# Altium footprint library MICB.PcbLib: 10 footprints
Each footprint in its own frame and in the unit in brackets; x right, y up, seen from the top. Pads: shape width x height; smd on the part's side, far side on the other; paste and mask are expansions set on the pad; w line width, h text height; cw(c..) or ccw(c..) is an arc to the next point about the centre after c.
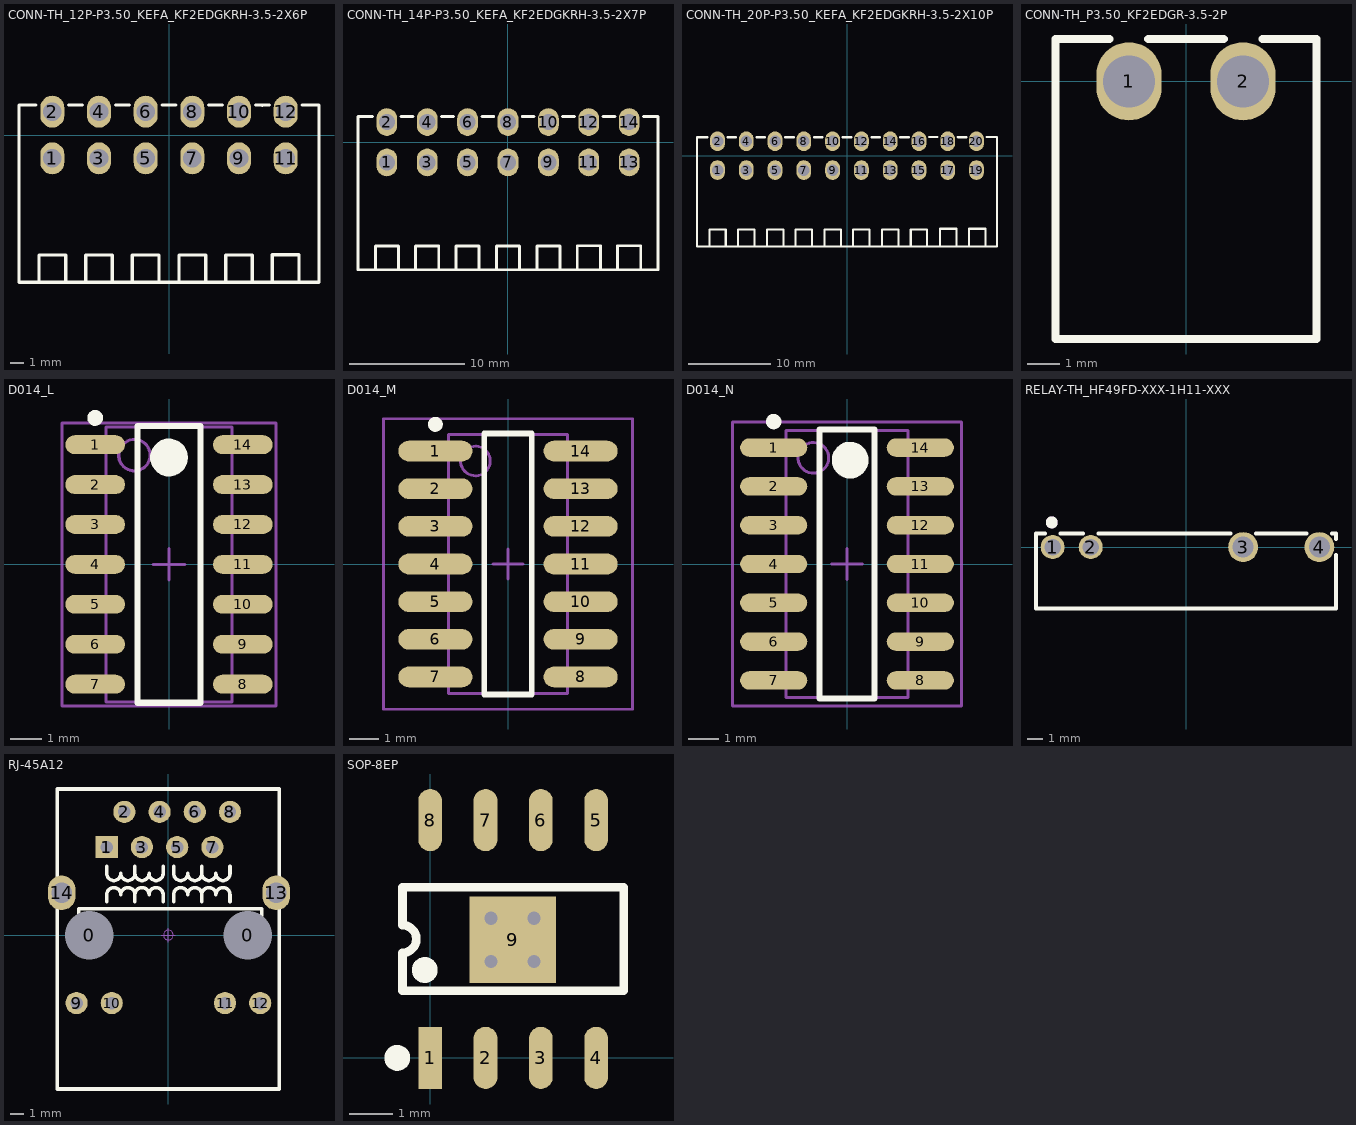
[diagram p0: the footprints below, top view; thin cyan lines are the x and y axes]

## CONN-TH_12P-P3.50_KEFA_KF2EDGKRH-3.5-2X6P [mm]
pads (12):
  oval 1.8x2.4 hole 1.4: 1(-8.75,-1.75) 2(-8.75,1.75) 3(-5.25,-1.75) 4(-5.25,1.75) 5(-1.75,-1.75) 6(-1.75,1.75) 7(1.75,-1.75) 8(1.75,1.75) 9(5.25,-1.75) 10(5.25,1.75) 11(8.75,-1.75) 12(8.75,1.75)
Top Overlay:
  lines w0.254: -9.984,2.25 -11.25,2.25 -11.25,-11.05 11.25,-11.05 11.25,2.25 9.983,2.25 ; -9.75,-11.05 -9.75,-9 -7.75,-9 -7.75,-11.05 ; -7.517,2.25 -6.483,2.25 ; -6.25,-11.05 -6.25,-9 -4.25,-9 -4.25,-11.05 ; -4.016,2.25 -2.984,2.25 ; -2.75,-11.05 -2.75,-9 -0.75,-9 -0.75,-11.05 ; -0.517,2.25 0.517,2.25 ; 0.75,-11.05 0.75,-9 2.75,-9 2.75,-11.05 ; 2.984,2.25 4.016,2.25 ; 4.25,-11.05 4.25,-9 6.25,-9 6.25,-11.05 ; 6.483,2.25 7,2.25 ; 7,2.23 7,2.25 ; 7.516,2.25 7,2.25 ; 7.752,-11.021 7.752,-8.971 9.752,-8.971 9.752,-11.021
3D body "22.STEP": height 15.26, standoff -2.54, extent -11.25,-11.049 11.25,2.25

## CONN-TH_14P-P3.50_KEFA_KF2EDGKRH-3.5-2X7P [mm]
pads (14):
  oval 1.8x2.4 hole 1.4: 1(-10.5,-1.75) 2(-10.5,1.75) 3(-7,-1.75) 4(-7,1.75) 5(-3.5,-1.75) 6(-3.5,1.75) 7(0,-1.75) 8(0,1.75) 9(3.5,-1.75) 10(3.5,1.75) 11(7,-1.75) 12(7,1.75) 13(10.5,-1.75) 14(10.5,1.75)
Top Overlay:
  lines w0.254: -11.733,2.25 -13,2.25 -13,-11.05 13,-11.05 13,2.25 11.734,2.25 ; -11.5,-11.05 -11.5,-9 -9.5,-9 -9.5,-11.05 ; -9.267,2.25 -8.233,2.25 ; -8,-11.05 -8,-9 -6,-9 -6,-11.05 ; -5.766,2.25 -4.733,2.25 ; -4.5,-11.05 -4.5,-9 -2.5,-9 -2.5,-11.05 ; -2.267,2.25 -1.233,2.25 ; -1,-11.05 -1,-9 1,-9 1,-11.05 ; 1.234,2.25 2.267,2.25 ; 2.5,-11.05 2.5,-9 4.5,-9 4.5,-11.05 ; 4.733,2.25 5.25,2.25 ; 5.25,2.23 5.25,2.25 ; 5.766,2.25 5.25,2.25 ; 6.002,-11.021 6.002,-8.971 8.002,-8.971 8.002,-11.021 ; 8.233,2.25 9.267,2.25 ; 9.502,-11.021 9.502,-8.971 11.502,-8.971 11.502,-11.021
3D body "22.STEP": height 15.26, standoff -2.54, extent -13.127,-11.049 12.872,2.25

## CONN-TH_20P-P3.50_KEFA_KF2EDGKRH-3.5-2X10P [mm]
pads (20):
  oval 1.8x2.4 hole 1.4: 1(-15.75,-1.75) 2(-15.75,1.75) 3(-12.25,-1.75) 4(-12.25,1.75) 5(-8.75,-1.75) 6(-8.75,1.75) 7(-5.25,-1.75) 8(-5.25,1.75) 9(-1.75,-1.75) 10(-1.75,1.75) 11(1.75,-1.75) 12(1.75,1.75) 13(5.25,-1.75) 14(5.25,1.75) 15(8.75,-1.75) 16(8.75,1.75) 17(12.25,-1.75) 18(12.25,1.75) 19(15.75,-1.75) 20(15.75,1.75)
Top Overlay:
  lines w0.254: -16.984,2.25 -18.25,2.25 -18.25,-11.05 18.25,-11.05 18.25,2.286 16.968,2.286 ; -16.75,-11.05 -16.75,-9 -14.75,-9 -14.75,-11.05 ; -14.517,2.25 -13.483,2.25 ; -13.25,-11.05 -13.25,-9 -11.25,-9 -11.25,-11.05 ; -11.016,2.25 -9.983,2.25 ; -9.75,-11.05 -9.75,-9 -7.75,-9 -7.75,-11.05 ; -7.517,2.25 -6.483,2.25 ; -6.25,-11.05 -6.25,-9 -4.25,-9 -4.25,-11.05 ; -4.016,2.25 -2.984,2.25 ; -2.75,-11.05 -2.75,-9 -0.75,-9 -0.75,-11.05 ; -0.517,2.25 0,2.25 ; 0,2.23 0,2.25 ; 0.516,2.25 0,2.25 ; 0.752,-11.021 0.752,-8.971 2.752,-8.971 2.752,-11.021 ; 2.983,2.25 4.016,2.25 ; 4.252,-11.021 4.252,-8.971 6.252,-8.971 6.252,-11.021 ; 6.483,2.25 7.516,2.25 7.325,2.25 ; 6.858,2.286 7.532,2.286 ; 7.752,-11.021 7.752,-8.971 9.752,-8.971 9.752,-11.021 ; 9.968,2.286 11.032,2.286 ; 11.339,-10.94 11.339,-8.89 13.339,-8.89 13.339,-10.94 ; 13.468,2.286 14.532,2.286 ; 13.483,2.25 14.516,2.25 14.325,2.25 ; 14.838,-10.94 14.838,-8.89 16.839,-8.89 16.839,-10.94
3D body "22.STEP": height 15.26, standoff -2.54, extent -18.249,-11.049 18.249,2.25

## CONN-TH_P3.50_KF2EDGR-3.5-2P [mm]
pads (2):
  oval 2x2.4 hole 1.6: 1(-1.75,0) 2(1.75,0)
Top Overlay:
  lines w0.254: -2.345,1.3 -4,1.3 -4,-7.9 4,-7.9 4,1.3 2.345,1.3 ; -1.155,1.3 1.155,1.3
3D body "22.STEP": height 6.98, standoff -3.72, extent -4.127,-7.899 3.873,1.3

## D014_L [mm] "SOIC, 14-Leads, Body 8.7x3.9mm, Pitch 1.27mm, IPC High Density"
height 1.75
pads (14):
  oval 1.9x0.6 smd: 1(-2.35,3.81) 2(-2.35,2.54) 3(-2.35,1.27) 4(-2.35,0) 5(-2.35,-1.27) 6(-2.35,-2.54) 7(-2.35,-3.81) 8(2.35,-3.81) 9(2.35,-2.54) 10(2.35,-1.27) 11(2.35,0) 12(2.35,1.27) 13(2.35,2.54) 14(2.35,3.81)
Top Overlay:
  circle w0.6: c0,3.4 r0.3
  circle w0.25: c-2.35,4.66 r0.125
  lines w0.2: -1,-4.4 1,-4.4 1,4.4 -1,4.4 -1,-4.4
Mechanical 13:
  circle w0.1: c-1.1,3.475 r0.5
  lines w0.1: -2,-4.375 2,-4.375 2,4.375 -2,4.375 -2,-4.375
Mechanical 15:
  lines w0.1: -0.5,0 0.5,0 ; 0,-0.5 0,0.5 ; -3.4,-4.5 3.4,-4.5 3.4,4.5 -3.4,4.5 -3.4,-4.5
3D body: height 1.75, standoff 0, extent -2,-4.375 2,4.375

## D014_M [mm] "SOIC, 14-Leads, Body 8.7x3.9mm, Pitch 1.27mm, IPC Low Density"
height 1.75
pads (14):
  oval 2.5x0.7 smd: 1(-2.45,3.81) 2(-2.45,2.54) 3(-2.45,1.27) 4(-2.45,0) 5(-2.45,-1.27) 6(-2.45,-2.54) 7(-2.45,-3.81) 8(2.45,-3.81) 9(2.45,-2.54) 10(2.45,-1.27) 11(2.45,0) 12(2.45,1.27) 13(2.45,2.54) 14(2.45,3.81)
Top Overlay:
  circle w0.25: c-2.45,4.71 r0.125
  lines w0.2: -0.8,-4.4 0.8,-4.4 0.8,4.4 -0.8,4.4 -0.8,-4.4
Mechanical 13:
  circle w0.1: c-1.1,3.475 r0.5
  lines w0.1: -2,-4.375 2,-4.375 2,4.375 -2,4.375 -2,-4.375
Mechanical 15:
  lines w0.1: -0.5,0 0.5,0 ; 0,-0.5 0,0.5 ; -4.2,-4.9 4.2,-4.9 4.2,4.9 -4.2,4.9 -4.2,-4.9
3D body: height 1.75, standoff 0, extent -2,-4.375 2,4.375

## D014_N [mm] "SOIC, 14-Leads, Body 8.7x3.9mm, Pitch 1.27mm, IPC Medium Density"
height 1.75
pads (14):
  oval 2.2x0.6 smd: 1(-2.4,3.81) 2(-2.4,2.54) 3(-2.4,1.27) 4(-2.4,0) 5(-2.4,-1.27) 6(-2.4,-2.54) 7(-2.4,-3.81) 8(2.4,-3.81) 9(2.4,-2.54) 10(2.4,-1.27) 11(2.4,0) 12(2.4,1.27) 13(2.4,2.54) 14(2.4,3.81)
Top Overlay:
  circle w0.25: c-2.4,4.66 r0.125
  circle w0.6: c0.1,3.4 r0.3
  lines w0.2: -0.9,-4.4 -0.9,4.4 0.9,4.4 0.9,-4.4 -0.9,-4.4
Mechanical 13:
  circle w0.1: c-1.1,3.475 r0.5
  lines w0.1: -2,-4.375 -2,4.375 2,4.375 2,-4.375 -2,-4.375
Mechanical 15:
  lines w0.1: -0.5,0 0.5,0 ; 0,-0.5 0,0.5 ; -3.75,-4.65 -3.75,4.65 3.75,4.65 3.75,-4.65 -3.75,-4.65
3D body: height 1.75, standoff 0, extent -2,-4.375 2,4.375

## RELAY-TH_HF49FD-XXX-1H11-XXX [mm]
pads (4):
  round 1.6 hole 1.1: 1(-8.89,0) 2(-6.35,0)
  round 2 hole 1.4: 3(3.81,0) 4(8.89,0)
Top Overlay:
  circle w0.4: c-8.95,1.65 r0.2
  lines w0.254: -10,-0.2 -10,0.9 -9.391,0.9 ; -10,-0.15 -10,-4.1 10,-4.1 10,-1.203 10,-0.529 ; -8.389,0.9 -6.851,0.9 ; -5.849,0.9 2.971,0.9 ; 7.659,0.9 4.649,0.9 8.051,0.9 ; 9.729,0.9 10,0.9 10,0.529
Mechanical 15:
  circle w0.4: c-8.95,1.65 r0.2
3D body "33.step": height 12.8, standoff -2.6, extent -10,-4.151 10,0.849

## RJ-45A12 [mil] "网线接口"
pads (16):
  round 130 hole 137.8: 0(-225,0) 0(225,0)
  rect 63x63 hole 35.43: 1(-175,250)
  round 63 hole 35.43: 2(-125,350) 3(-75,250) 4(-25,350) 5(25,250) 6(75,350) 7(125,250) 8(175,350) 9(-260.83,-192.91) 10(-160.83,-192.91) 11(160.82,-192.91) 12(260.82,-192.91)
  oval 78.74x98.43 hole 59.06: 13(306.49,120.08) 14(-302.96,120.08)
Top Overlay:
  lines w10: -255,55 -255,75 265,75 265,55 ; -175,95 -175,115 cw(c-155,115) -135,115 cw(c-115,115) -95,115 ; -175,195 -175,175 ccw(c-155,175) -135,175 ccw(c-115,175) -95,175 ; -95,95 -95,115 ; -95,195 -95,175 ; -15,95 -15,115 ccw(c-35,115) -55,115 ccw(c-75,115) -95,115 ; -15,195 -15,175 cw(c-35,175) -55,175 cw(c-75,175) -95,175 ; 15,95 15,115 cw(c35,115) 55,115 cw(c75,115) 95,115 ; 15,195 15,175 ccw(c35,175) 55,175 ccw(c75,175) 95,175 ; 95,95 95,115 ; 95,195 95,175 ; 175,95 175,115 ccw(c155,115) 135,115 ccw(c115,115) 95,115 ; 175,195 175,175 cw(c155,175) 135,175 cw(c115,175) 95,175 ; -315,-437.01 -315,415 315,415 315,-437.01 -315,-437.01
Mechanical 15:
  circle w1.97: c0,0 r13.78
  lines w1.97: -19.68,0 19.68,0 ; 0,-19.68 0,19.68
3D body "HanRun-HR911105A.STEP": height 103.06, standoff -546.55, extent -313.83,-430.18 311.37,412.34

## SOP-8EP [mm]
pads (9):
  rect 0.55x1.44 smd: 1(0,0)
  oval 0.55x1.44 smd: 2(1.28,0) 3(2.56,0) 4(3.84,0) 5(3.84,5.5) 6(2.56,5.5) 7(1.28,5.5) 8(0,5.5)
  rect 2x2 smd: 9(1.905,2.73)
via 2.405,2.23 diameter 0.61 hole 0.305
via 1.405,2.23 diameter 0.61 hole 0.305
via 1.405,3.23 diameter 0.61 hole 0.305
via 2.405,3.23 diameter 0.61 hole 0.305
Top Overlay:
  circle w0.3: c-0.762,0 r0.15
  circle w0.3: c-0.127,2.032 r0.15
  lines w0.2: -0.64,1.555 4.48,1.555 4.48,3.945 -0.64,3.945 -0.64,3.07 cw(c-0.64,2.75) -0.64,2.43 -0.64,1.555
3D body "22.STEP": height 1.69, standoff -0.03, extent -0.502,-0.285 4.312,5.715